# Altium footprint library MOLEX-02_180.PcbLib: 1 footprints
Each footprint in its own frame and in the unit in brackets; x right, y up, seen from the top. Pads: shape width x height; smd on the part's side, far side on the other; paste and mask are expansions set on the pad; w line width, h text height; cw(c..) or ccw(c..) is an arc to the next point about the centre after c.
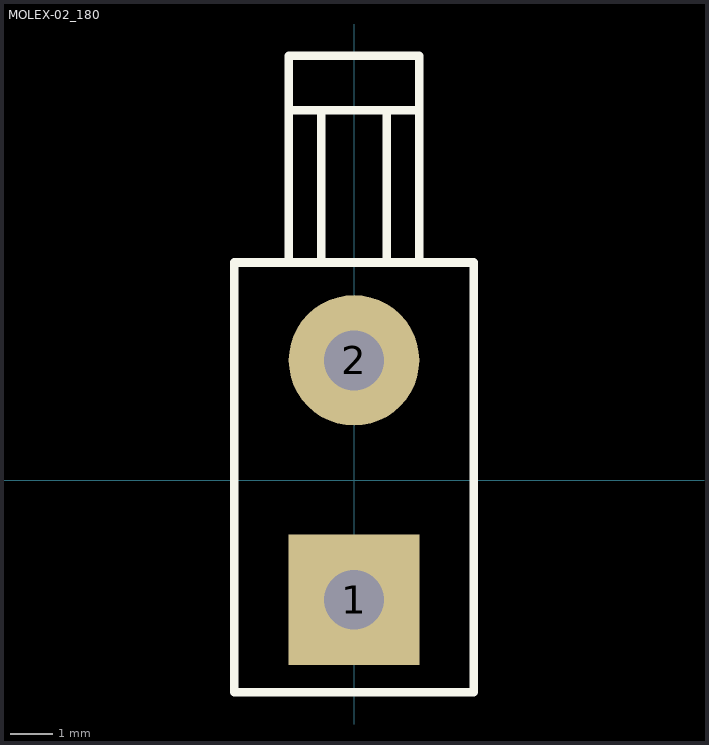
[diagram p0: the footprint, top view; thin cyan lines are the x and y axes]

## MOLEX-02_180 [mil]
pads (2):
  rect 120x120 hole 55: 1(0,-110)
  round 120 hole 55: 2(0,110)
TopOverlay:
  lines w8: -60,200 -60,390 60,390 60,200 ; -60,340 60,340 ; -30,200 -30,340 ; 30,200 30,340 ; -110,-195 -110,200 110,200 110,-195 -110,-195